# Altium integrated library PEC11R-4015K-S0024.IntLib: 1 symbol
Pins are listed as number, name and electrical type; pins without a type are passive.

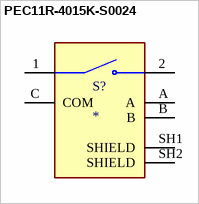
[diagram p0: symbol PEC11R-4015K-S0024]

## PEC11R-4015K-S0024
designator S?
MF: {'manufacturer': u'Bourns Inc.'}; MP: PEC11R-4015K-S0024; Package: None; Price: None; Value: *; Availability: Unavailable
footprint XDCR_PEC11R-4015K-S0024
pins: 1, 2, A, B, C COM, SH1 SHIELD, SH2 SHIELD